# Altium footprint library Connector_clamp.PcbLib: 5 footprints
Each footprint in its own frame and in the unit in brackets; x right, y up, seen from the top. Pads: shape width x height; smd on the part's side, far side on the other; paste and mask are expansions set on the pad; w line width, h text height; cw(c..) or ccw(c..) is an arc to the next point about the centre after c.
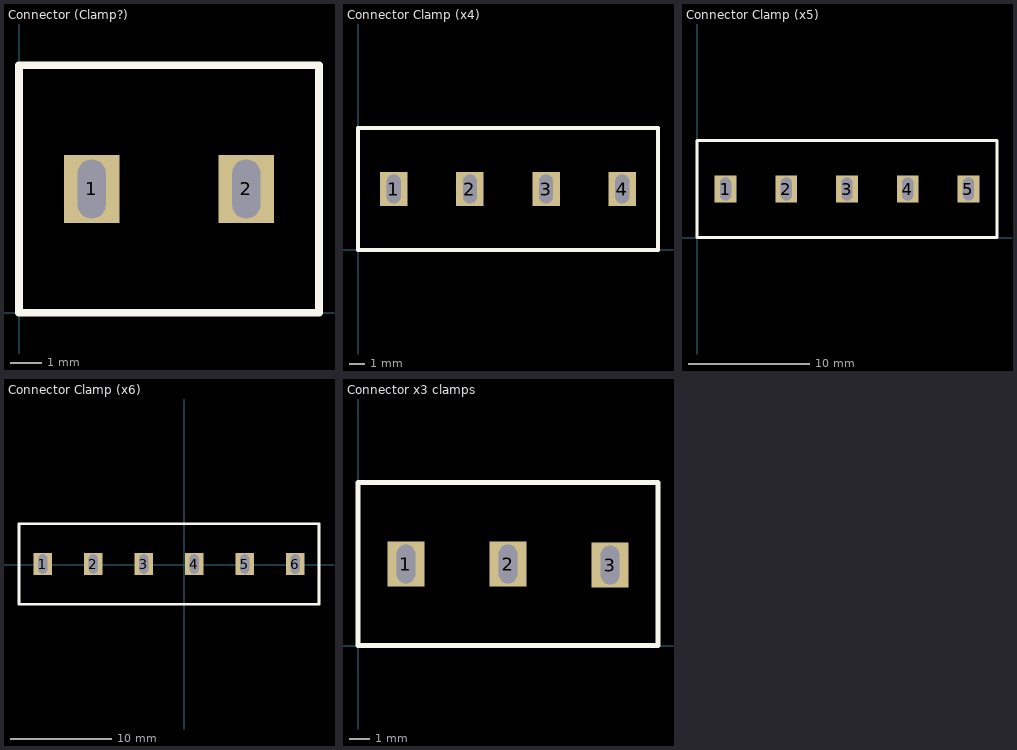
[diagram p0: the footprints below, top view; thin cyan lines are the x and y axes]

## Connector (Clamp?) [mm]
pads (2):
  rect 1.8x2.2 hole 0.9 slot 1.9 at 90 deg: 1(2.35,4) 2(7.35,4)
Top Overlay:
  lines w0.254: 0,0 0,8 9.7,8 9.7,0 0,0

## Connector Clamp (x4) [mm]
pads (4):
  rect 1.8x2.2 hole 0.9 slot 1.9 at 90 deg: 1(2.35,4) 2(7.35,4) 3(12.35,4) 4(17.35,4)
Top Overlay:
  lines w0.254: 0,0 9.7,0 14.7,0 19.7,0 19.7,8 14.7,8 9.7,8 0,8 0,0

## Connector Clamp (x5) [mm]
pads (5):
  rect 1.8x2.2 hole 0.9 slot 1.9 at 90 deg: 1(2.35,4) 2(7.35,4) 3(12.35,4) 4(17.35,4) 5(22.35,4)
Top Overlay:
  lines w0.254: 0,0 9.7,0 14.7,0 19.7,0 24.7,0 24.7,8 19.7,8 14.7,8 9.7,8 0,8 0,0

## Connector Clamp (x6) [mm]
pads (6):
  rect 1.8x2.2 hole 0.9 slot 1.9 at 90 deg: 1(-14,0.05) 2(-9,0.05) 3(-4,0.05) 4(1,0.05) 5(6,0.05) 6(11,0.05)
Top Overlay:
  lines w0.254: -16.35,-3.95 -6.65,-3.95 -1.65,-3.95 3.35,-3.95 8.35,-3.95 13.35,-3.95 13.35,4.05 8.35,4.05 3.35,4.05 -1.65,4.05 -6.65,4.05 -16.35,4.05 -16.35,-3.95

## Connector x3 clamps [mm]
pads (3):
  rect 1.8x2.2 hole 0.9 slot 1.9 at 90 deg: 1(2.35,4) 2(7.35,4) 3(12.35,3.95)
Top Overlay:
  lines w0.254: 0,0 0,8 9.7,8 14.7,8 14.7,0 9.7,0 0,0